# Altium integrated library MAX232DR.IntLib: 1 symbol
Pins are listed as number, name and electrical type; pins without a type are passive.

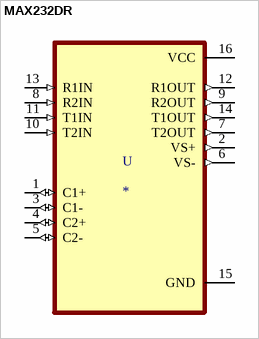
[diagram p0: symbol MAX232DR]

## MAX232DR
designator U
Dual EIA-232 driver and receiver 16-SOIC 0 to 70; MP: MAX232DR; MF: Texas Instruments; Mouser-Purchase-URL: https://snapeda.com/shop?store=Mouser&id=2672631; DigiKey-Purchase-URL: https://snapeda.com/shop?store=DigiKey&id=2672631; SnapEDA_Link: https://www.snapeda.com/parts/MAX232DR/Texas%20Instruments/view-part/2672631/?ref=snap; Arrow_Electronics-Purchase-URL: https://snapeda.com/shop?store=Arrow+Electronics&id=2672631; Texas_Instruments-Purchase-URL: https://snapeda.com/shop?store=Texas+Instruments&id=2672631; Availability: Unavailable; Price: None; Value: *; Package: SOIC-16 Texas Instruments
footprint SOIC127P600X175-16N
pins: 1 C1+ (io), 2 VS+ (out), 3 C1- (io), 4 C2+ (io), 5 C2- (io), 6 VS- (out), 7 T2OUT (out), 8 R2IN (in), 9 R2OUT (out), 10 T2IN (in), 11 T1IN (in), 12 R1OUT (out), 13 R1IN (in), 14 T1OUT (out), 15 GND (power), 16 VCC (power)